# Altium footprint library BLM21PG331SN1D.PcbLib: 1 footprints
Each footprint in its own frame and in the unit in brackets; x right, y up, seen from the top. Pads: shape width x height; smd on the part's side, far side on the other; paste and mask are expansions set on the pad; w line width, h text height; cw(c..) or ccw(c..) is an arc to the next point about the centre after c.
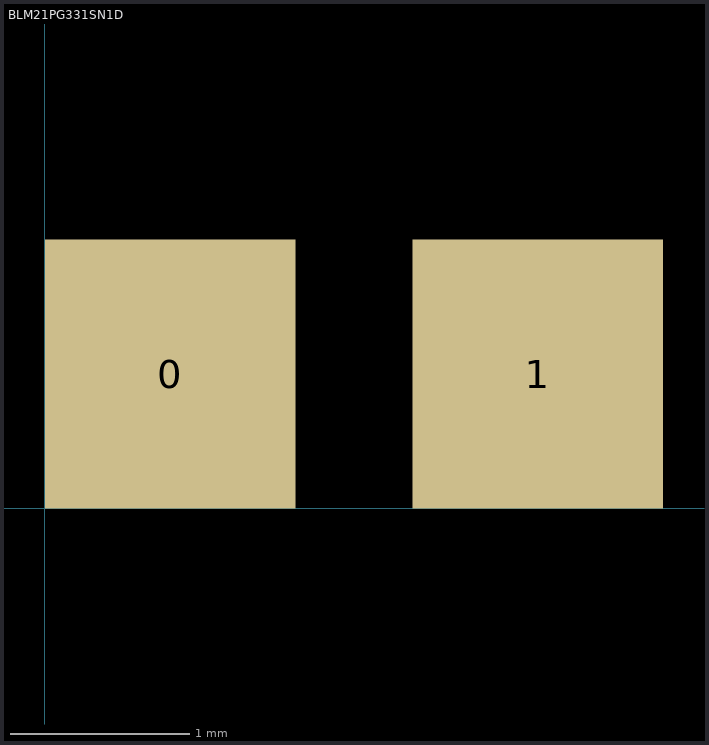
[diagram p0: the footprint, top view; thin cyan lines are the x and y axes]

## BLM21PG331SN1D [mm] "0805 (2012 metric) SMD inductor"
height 1.041
pads (2):
  rect 1.4x1.5 smd: 0(0.7,0.75) 1(2.75,0.75)
3D body: height 1.04, standoff 0, extent -0.102,-0.102 3.552,1.602